# Altium footprint library SON.PcbLib: 5 footprints
Each footprint in its own frame and in the unit in brackets; x right, y up, seen from the top. Pads: shape width x height; smd on the part's side, far side on the other; paste and mask are expansions set on the pad; w line width, h text height; cw(c..) or ccw(c..) is an arc to the next point about the centre after c.
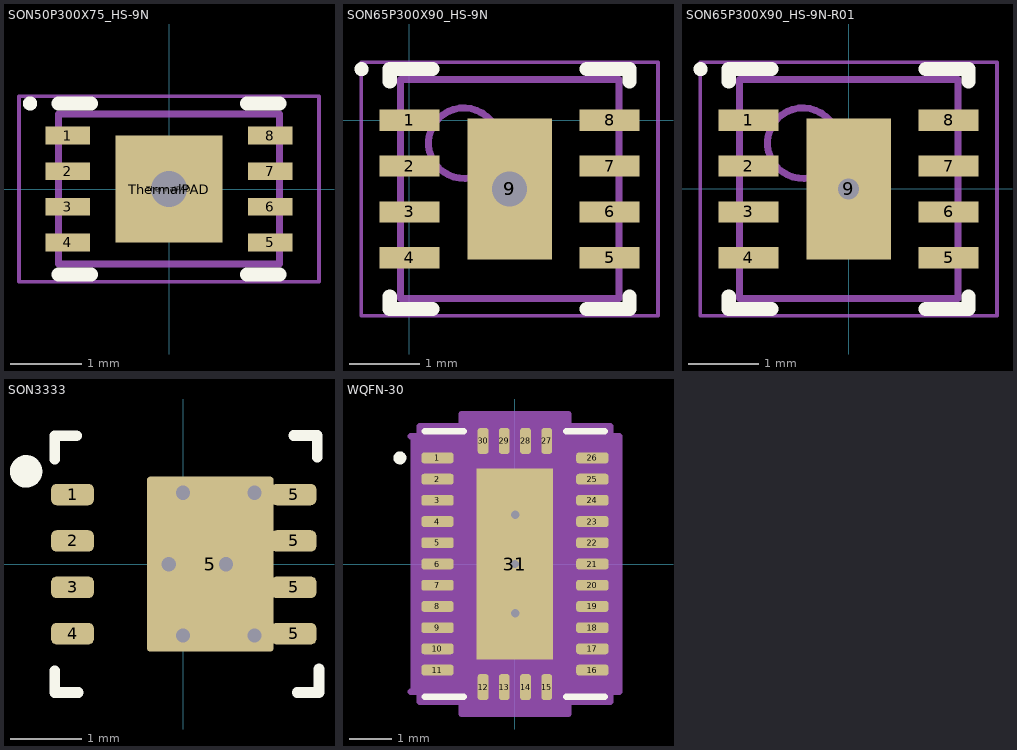
[diagram p0: the footprints below, top view; thin cyan lines are the x and y axes]

## SON50P300X75_HS-9N [mm] "SON, 8-Leads, Body 2.00x3.00mm, Pitch 0.50mm, Thermal Pad 1.50x1.50mm, IPC Medium Density"
height 0.75
pads (10):
  rect 0.625x0.25 smd: 1(-1.42,0.75) 2(-1.42,0.25) 3(-1.42,-0.25) 4(-1.42,-0.75) 5(1.42,-0.75) 6(1.42,-0.25) 7(1.42,0.25) 8(1.42,0.75)
  rect 1.5x1.5 smd: ThermalPAD(0,0)
  round 0.8 hole 0.5: ThermalPAD(0,0)
Top Overlay:
  circle w0.1: c-1.95,1.2 r0.05
  lines w0.2: -1.55,-1.2 -1.095,-1.2 ; -1.55,1.2 -1.095,1.2 ; 1.095,-1.2 1.55,-1.2 ; 1.095,1.2 1.55,1.2
Mechanical 13:
  lines w0.1: -1.55,-1.05 1.55,-1.05 1.55,1.05 -1.55,1.05 -1.55,-1.05
Mechanical 15:
  lines w0.05: -2.105,-1.3 2.105,-1.3 2.105,1.3 -2.105,1.3 -2.105,-1.3
  lines w0.1: -0.5,0 0.5,0 ; 0,-0.5 0,0.5
3D body "SON50P300X75_HS-9N.step": height 0.75, standoff 0, extent -1.57,-1.05 1.57,1.05

## SON65P300X90_HS-9N [mm] "SON, 8-Leads, Body 3.00x3.00mm, Pitch 0.65mm, Thermal Pad 2.40x1.59mm, IPC Medium Density"
height 0.9
pads (10):
  rect 0.85x0.3 smd: 1(0,0) 2(0,-0.65) 3(0,-1.3) 4(0,-1.95) 5(2.84,-1.95) 6(2.84,-1.3) 7(2.84,-0.65) 8(2.84,0)
  rect 1.2x2 smd: 9(1.42,-0.975)
  round 0.8 hole 0.5: 9(1.42,-0.975)
Top Overlay:
  circle w0.1: c-0.68,0.725 r0.05
  lines w0.2: -0.28,-2.5 -0.28,-2.675 0.325,-2.675 ; -0.28,0.55 -0.28,0.725 0.325,0.725 ; 2.515,-2.675 3.12,-2.675 3.12,-2.5 ; 2.515,0.725 3.12,0.725 3.12,0.55
Mechanical 13:
  circle w0.1: c0.77,-0.325 r0.5
  lines w0.1: -0.13,-2.525 -0.13,0.575 2.97,0.575 2.97,-2.525 -0.13,-2.525
Mechanical 15:
  lines w0.05: -0.685,-2.775 -0.685,0.825 3.525,0.825 3.525,-2.775 -0.685,-2.775
  lines w0.1: 0.92,-0.975 1.92,-0.975 ; 1.42,-1.475 1.42,-0.475
3D body "SON65P300X90_HS-9N.step": height 0.9, standoff 0, extent -0.13,-2.525 2.97,0.575

## SON65P300X90_HS-9N-R01 [mm] "SON, 8-Leads, Body 3.00x3.00mm, Pitch 0.65mm, Thermal Pad 2.40x1.59mm, IPC Medium Density"
height 0.9
pads (9):
  rect 0.85x0.3 smd: 1(-1.42,0.975) 2(-1.42,0.325) 3(-1.42,-0.325) 4(-1.42,-0.975) 5(1.42,-0.975) 6(1.42,-0.325) 7(1.42,0.325) 8(1.42,0.975)
  rect 1.2x2 smd: 9(0,0)
via 0,0 diameter 0.5 hole 0.3
Top Overlay:
  circle w0.1: c-2.1,1.7 r0.05
  lines w0.2: -1.7,-1.525 -1.7,-1.7 -1.095,-1.7 ; -1.7,1.525 -1.7,1.7 -1.095,1.7 ; 1.095,-1.7 1.7,-1.7 1.7,-1.525 ; 1.095,1.7 1.7,1.7 1.7,1.525
Mechanical 13:
  circle w0.1: c-0.65,0.65 r0.5
  lines w0.1: -1.55,-1.55 1.55,-1.55 1.55,1.55 -1.55,1.55 -1.55,-1.55
Mechanical 15:
  lines w0.05: -2.105,-1.8 2.105,-1.8 2.105,1.8 -2.105,1.8 -2.105,-1.8
  lines w0.1: -0.5,0 0.5,0 ; 0,-0.5 0,0.5
3D body "SON65P300X90_HS-9N.step": height 0.9, standoff 0, extent -1.55,-1.55 1.55,1.55

## SON3333 [mm] "0.65pitch, 3.3*3.3"
height 1
pads (9):
  rrect50% 0.6x0.3 smd: 1(-1.55,0.975) 2(-1.55,0.325) 3(-1.55,-0.325) 4(-1.55,-0.975)
  rrect5% 1.775x2.45 smd: 5(0.38,0)
  rrect50% 0.635x0.3 smd: 5(1.55,-0.975) 5(1.55,-0.325) 5(1.55,0.325) 5(1.55,0.975)
via 1,1 diameter 0.3 hole 0.2
via 0,1 diameter 0.3 hole 0.2
via -0.2,0 diameter 0.3 hole 0.2
via 1,-1 diameter 0.3 hole 0.2
via 0,-1 diameter 0.3 hole 0.2
via 0.6,0 diameter 0.3 hole 0.2
Top Overlay:
  circle w0.254: c-2.2,1.3 r0.1
  lines w0.15: -1.8,-1.495 -1.8,-1.8 -1.47,-1.8 ; -1.8,1.47 -1.8,1.8 -1.495,1.8 ; 1.549,1.803 1.88,1.803 1.88,1.499 ; 1.6,-1.8 1.905,-1.8 1.905,-1.47
3D body "DNH0008A.stp": height 0.9, standoff 0, extent -1.599,-1.659 1.701,1.651

## WQFN-30 [mil] "WQFN 30pin 0.5pitch"
pads (31):
  rrect50% 30x10 smd paste+0 mask+3: 1(-71.85,98.43) 2(-71.85,78.74) 3(-71.85,59.06) 4(-71.85,39.37) 5(-71.85,19.68) 6(-71.85,0) 7(-71.85,-19.68) 8(-71.85,-39.37) 9(-71.85,-59.06) 10(-71.85,-78.74) 11(-71.85,-98.43) 16(71.85,-98.43) 17(71.85,-78.74) 18(71.85,-59.06) 19(71.85,-39.37) 20(71.85,-19.68) 21(71.85,0) 22(71.85,19.68) 23(71.85,39.37) 24(71.85,59.06) 25(71.85,78.74) 26(71.85,98.43)
  rrect50% 10x24 smd paste+0 mask+2: 12(-29.53,-114.17) 13(-9.84,-114.17) 14(9.84,-114.17) 15(29.53,-114.17) 27(29.53,114.17) 28(9.84,114.17) 29(-9.84,114.17) 30(-29.53,114.17)
  rect 71x177 smd paste-88 mask-88: 31(0,0)
via 0,0 diameter 19.68 hole 7.87
via 0.16,45.67 diameter 19.68 hole 7.87
via 0.16,-45.67 diameter 19.68 hole 7.87
Top Overlay:
  circle w6: c-106.69,98.43 r3
  lines w6: -83.5,-123 -47.63,-123 ; -83.5,123 -47.63,123 ; 47.63,-123 83.5,-123 ; 47.63,123 83.5,123
Top Paste:
  drawing of 18 lines, arcs and shapes, not listed
Top Solder:
  region: 23.37,-91 23.37,91 38,91 38,-91
  region: 7.63,-91 7.63,91 -7.63,91 -7.63,-91
  region: -38,-91 -38,91 -23.37,91 -23.37,-91
  region: -38,-91 -38,-69.87 38,-69.87 38,-91
  region: -38,-54.13 -38,-38.87 38,-38.87 38,-54.13
  region: -38,-23.13 -38,-7.87 38,-7.87 38,-23.13
  region: -38,7.87 -38,23.13 38,23.13 38,7.87
  region: -38,38.87 -38,54.13 38,54.13 38,38.87
  region: -38,69.87 -38,91 38,91 38,69.87
Mechanical 7:
Mechanical 13:
  circle w0: c-66.85,98.43 r3
  lines w1: -78.5,68 -28.5,118 ; -78.5,-118 -78.5,118 78.5,118 78.5,-118 -78.5,-118
Mechanical 15:
  region: -49.53,-128 -88.5,-128 -88.5,-118.43 -96.85,-118.43 -96.85,118.43 -88.5,118.43 -88.5,128 -49.53,128 -49.53,139.17 49.53,139.17 49.53,128 88.5,128 88.5,118.43 96.85,118.43 96.85,-118.43 88.5,-118.43 88.5,-128 49.53,-128 49.53,-139.17 -49.53,-139.17
  lines w6: -96.85,-118.43 -88.5,-118.43 -88.5,-128 -49.53,-128 -49.53,-139.17 49.53,-139.17 49.53,-128 88.5,-128 88.5,-118.43 96.85,-118.43 96.85,118.43 88.5,118.43 88.5,128 49.53,128 49.53,139.17 -49.53,139.17 -49.53,128 -88.5,128 -88.5,118.43 -96.85,118.43
Mechanical 16:
  circle w0: c-25.56,44.9 r4
  circle w0: c25.62,44.9 r4
  circle w0: c25.62,0 r4
  circle w0: c25.62,-44.9 r4
  circle w0: c-25.56,0 r4
  circle w0: c0.01,67.35 r4
  circle w0: c0.01,22.46 r4
  circle w0: c0.01,-22.44 r4
  circle w0: c0.01,-67.34 r4
  circle w0: c-25.56,-44.9 r4
3D body: height 31.5, standoff 0, extent -78.74,-118.11 78.74,118.11
3D body: height 10, standoff 0, extent 0,0 10,10